# EAGLE library part P-20- (library con-headers-jp)
HEADER PLUG PINS
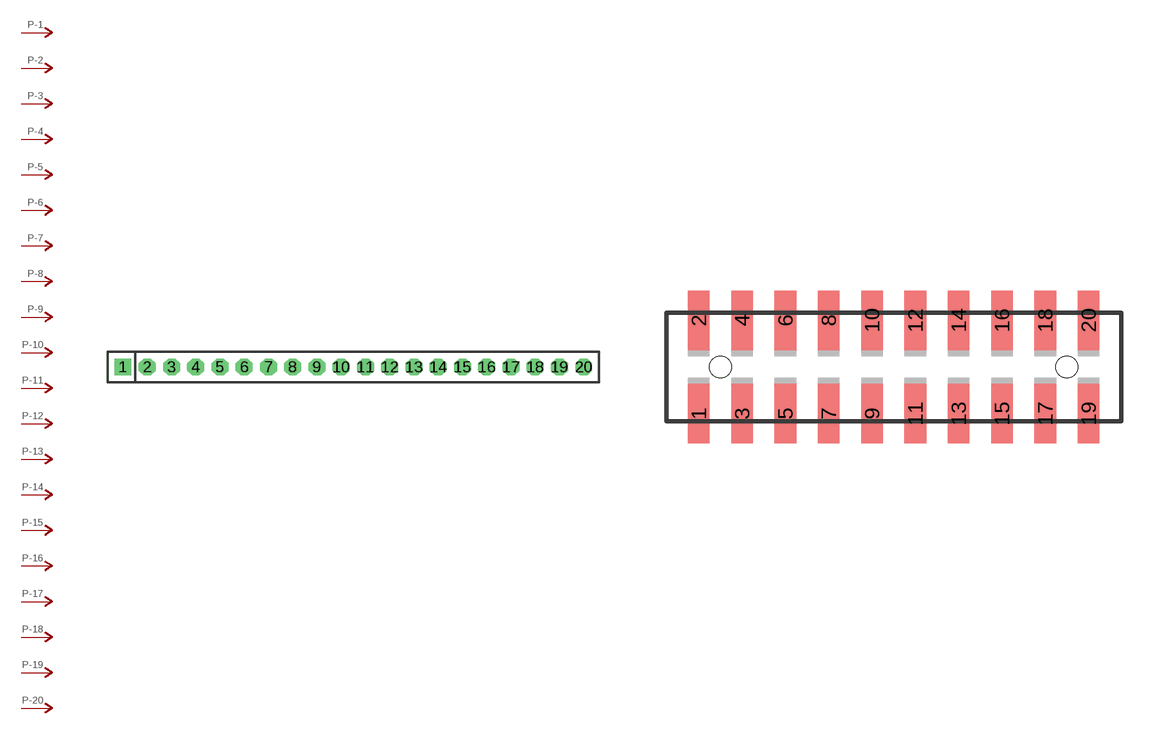
[diagram p17: symbol with the pads of SIP-100-20; footprints SIP-100-20, 87759-20]

Designator prefix P; gates -1=P-N -2=P-N -3=P-N -4=P-N -5=P-N -6=P-N -7=P-N -8=P-N -9=P-N -10=P-N -11=P-N -12=P-N -13=P-N -14=P-N -15=P-N -16=P-N -17=P-N -18=P-N -19=P-N -20=P-N

## P-20-SIP-100  [SIP-100-20]
1  -1:P  pas
2  -2:P  pas
3  -3:P  pas
4  -4:P  pas
5  -5:P  pas
6  -6:P  pas
7  -7:P  pas
8  -8:P  pas
9  -9:P  pas
10  -10:P  pas
11  -11:P  pas
12  -12:P  pas
13  -13:P  pas
14  -14:P  pas
15  -15:P  pas
16  -16:P  pas
17  -17:P  pas
18  -18:P  pas
19  -19:P  pas
20  -20:P  pas

## P-20-87759  [87759-20]
Pads as for SIP-100-20

## P-20-100-2X10  [HDR-100-2X10]
Pads as for SIP-100-20

## P-20-100-2X10_M  [HDR-100-2X10_M]
Pads as for SIP-100-20

## P-20-2MM-2X10  [HDR-2MM-2X10]
Pads as for SIP-100-20

## P-20-2MM-2X10_M  [HDR-2MM-2X10_M]
Pads as for SIP-100-20

## Footprint SIP-100-20 (pad centres in mm)
SIP Header - 0.1"
drill 0.914 pad 1.778 square: 1 -24.13,0
drill 0.914 pad 1.778 octagon: 2 -21.59,0; 3 -19.05,0; 4 -16.51,0; 5 -13.97,0; 6 -11.43,0; 7 -8.89,0; 8 -6.35,0; 9 -3.81,0; 10 -1.27,0; 11 1.27,0; 12 3.81,0; 13 6.35,0; 14 8.89,0; 15 11.43,0; 16 13.97,0; 17 16.51,0; 18 19.05,0; 19 21.59,0; 20 24.13,0

## Footprint 87759-20 (pad centres in mm)
Molex PCB Pin Headers 2.00mm (.079") Pitch Milli-Grid Header, Vertical SMD
smd 1 x 2.75: 1 -9,-2.15; 2 -9,2.15; 3 -7,-2.15; 4 -7,2.15; 5 -5,-2.15; 6 -5,2.15; 7 -3,-2.15; 8 -3,2.15; 9 -1,-2.15; 10 -1,2.15; 11 1,-2.15; 12 1,2.15; 13 3,-2.15; 14 3,2.15; 15 5,-2.15; 16 5,2.15; 17 7,-2.15; 18 7,2.15; 19 9,-2.15; 20 9,2.15
hole 1 at -8,0
hole 1 at 8,0

## Footprint HDR-100-2X10 (pad centres in mm)
PIN HEADER - 0.1"
drill 1.016 square: 1 -11.43,-1.27
drill 1.016 octagon: 2 -11.43,1.27; 3 -8.89,-1.27; 4 -8.89,1.27; 5 -6.35,-1.27; 6 -6.35,1.27; 7 -3.81,-1.27; 8 -3.81,1.27; 9 -1.27,-1.27; 10 -1.27,1.27; 11 1.27,-1.27; 12 1.27,1.27; 13 3.81,-1.27; 14 3.81,1.27; 15 6.35,-1.27; 16 6.35,1.27; 17 8.89,-1.27; 18 8.89,1.27; 19 11.43,-1.27; 20 11.43,1.27

## Footprint HDR-100-2X10_M (pad centres in mm)
PIN HEADER - 0.1" - MIRRORED
drill 1.016 square: 1 -11.43,1.27
drill 1.016 octagon: 2 -11.43,-1.27; 3 -8.89,1.27; 4 -8.89,-1.27; 5 -6.35,1.27; 6 -6.35,-1.27; 7 -3.81,1.27; 8 -3.81,-1.27; 9 -1.27,1.27; 10 -1.27,-1.27; 11 1.27,1.27; 12 1.27,-1.27; 13 3.81,1.27; 14 3.81,-1.27; 15 6.35,1.27; 16 6.35,-1.27; 17 8.89,1.27; 18 8.89,-1.27; 19 11.43,1.27; 20 11.43,-1.27

## Footprint HDR-2MM-2X10 (pad centres in mm)
PIN HEADER - 2MM"
drill 0.914 square: 1 -9,-1
drill 0.914 round: 2 -9,1; 3 -7,-1; 4 -7,1; 5 -5,-1; 6 -5,1; 7 -3,-1; 8 -3,1; 9 -1,-1; 10 -1,1; 11 1,-1; 12 1,1; 13 3,-1; 14 3,1; 15 5,-1; 16 5,1; 17 7,-1; 18 7,1; 19 9,-1; 20 9,1

## Footprint HDR-2MM-2X10_M (pad centres in mm)
PIN HEADER - 2MM - MIRRORED
drill 0.914 square: 1 -9,1
drill 0.914 round: 2 -9,-1; 3 -7,1; 4 -7,-1; 5 -5,1; 6 -5,-1; 7 -3,1; 8 -3,-1; 9 -1,1; 10 -1,-1; 11 1,1; 12 1,-1; 13 3,1; 14 3,-1; 15 5,1; 16 5,-1; 17 7,1; 18 7,-1; 19 9,1; 20 9,-1